# EAGLE library part CAY16-1002F4LF_CAY16-1002F4LF (library Lagopus_A_3)
Resistor Arrays 10K 1% Convex 4 resist. Bourns CAY16 Series 10k +/-1% Isolated SMT Resistor Array, 4 Resistors, 0.25W total 1206 Package Convex Source: Datasheet <http://uk.rs-online.com/web/p/products/7408767P>
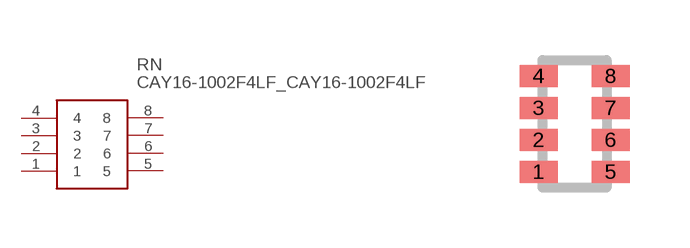
[diagram p0: symbol with the pads of CAY16-1002F4LF_CAY-16-F4; footprint CAY16-1002F4LF_CAY-16-F4]

Designator prefix RN

## CAY16-1002F4LF_CAY16-1002F4LF (ALLIED_NUMBER: 70276325; DESCRIPTION: Resistor Arrays 10K 1% Convex 4 resist. Bourns CAY16 Series 10k +/-1% Isolated SMT Resistor Array, 4 Resistors, 0.25W total 1206 Package Convex; HEIGHT: mm; MANUFACTURER_NAME: Bourns; MANUFACTURER_PART_NUMBER: CAY16-1002F4LF; RS_PART_NUMBER: 7408767P; RS_PRICE-STOCK: http://uk.rs-online.com/web/p/products/7408767P)  [CAY16-1002F4LF_CAY-16-F4]
1  1
2  2
3  3
4  4
5  5
6  6
7  7
8  8

## Footprint CAY16-1002F4LF_CAY-16-F4 (pad centres in mm)
CAY-16-f4
smd 0.95 x 0.55: 1 -0.9,-1.2; 2 -0.9,-0.4; 3 -0.9,0.4; 4 -0.9,1.2; 5 0.9,-1.2; 6 0.9,-0.4; 7 0.9,0.4; 8 0.9,1.2